# Altium schematic symbol library oscillator.SchLib: 1 symbol
Pins are listed as number, name and electrical type; pins without a type are passive.

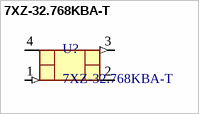
[diagram p0: symbol 7XZ-32.768KBA-T]

## 7XZ-32.768KBA-T
designator U?
Oscillator 32.768 Khz
footprint OSCCILATOR
pins: 1 ENA (in), 2 GND (power), 3 OUT (out), 4 VDD (power)